# Altium footprint library Encoders.PcbLib: 2 footprints
Each footprint in its own frame and in the unit in brackets; x right, y up, seen from the top. Pads: shape width x height; smd on the part's side, far side on the other; paste and mask are expansions set on the pad; w line width, h text height; cw(c..) or ccw(c..) is an arc to the next point about the centre after c.
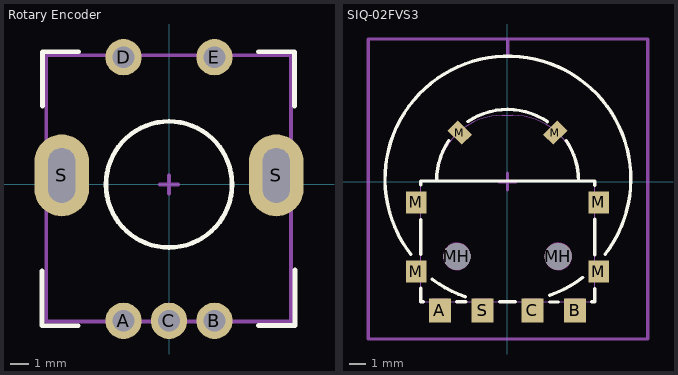
[diagram p0: the footprints below, top view; thin cyan lines are the x and y axes]

## Rotary Encoder [mm] "Rotary Encoder - SW"
height 0.889
pads (7):
  round 2 hole 1.2: A(-2.5,-7.5) B(2.5,-7.5) C(0,-7.5) D(-2.5,7) E(2.5,7)
  oval 3x4.5 hole 1.5 slot 3 at 90 deg: S(-5.9,0.5) S(5.9,0.5)
Top Overlay:
  circle w0.254: c0,0 r3.467
  lines w0.254: -6.984,-4.761 -6.984,-7.761 -4.984,-7.761 ; -6.958,4.3 -6.958,7.3 -4.958,7.3 ; 4.9,7.3 6.9,7.3 6.9,4.3 ; 4.904,-7.759 6.929,-7.759 6.929,-4.7
Mechanical 13:
  lines w0.2: -6.742,-7.539 6.709,-7.539 6.709,7.11 -6.742,7.11 -6.742,-7.539
Mechanical 15:
  lines w0.2: -0.5,0 0.5,0 ; 0,-0.5 0,0.5
3D body "Encoder Alpha RE111F-41B3N-15F-20P.step": height 22, standoff -2.48, extent -6.847,-7.63 6.808,7.2

## SIQ-02FVS3 [mm] "Wheel encoder with slide rotary encoder switch"
height 4
pads (12):
  rect 1.3x1.4 smd paste+0 mask+0.05: A(-3.996,-7.629) B(4.004,-7.629) C(1.479,-7.629) S(-1.471,-7.629)
  rect 1.2x1.3 smd paste+0 mask+0.05: M(-5.396,-5.329) M(-5.396,-1.229) M(5.404,-5.329) M(5.404,-1.229)
  rect 0.85x1.2 smd rot 45 paste+0 mask+0.05: M(-2.825,2.899)
  rect 0.85x1.2 smd rot 135 paste+0 mask+0.05: M(2.832,2.899)
  round 1.6 hole 1.6 unplated: MH(-2.996,-4.429) MH(3.004,-4.429)
Top Overlay:
  lines w0.2: -5.717,-4.316 cw(c0.026,0.151) 5.784,-4.297 ; -5.14,-4.31 -5.14,-2.25 ; -5.137,0.034 5.173,0.016 5.173,-0.221 ; -5.136,-6.325 -5.136,-7.125 -5.036,-7.125 -4.985,-7.125 ; -5.136,-0.2 -5.136,0.028 ; -4.446,-5.794 ccw(c-0.212,-0.099) -2.493,-6.819 ; -4.196,0.071 cw(c0.004,0.071) -3.477,2.421 ; -3,-7.12 -2.48,-7.12 ; -2.345,3.553 cw(c0.004,0.071) 2.364,3.545 ; -0.47,-7.12 0.47,-7.12 ; 2.492,-6.728 ccw(c0.154,-0.029) 4.448,-5.678 ; 2.5,-7.13 3,-7.13 ; 3.477,2.426 cw(c0.004,0.065) 4.204,0.065 ; 4.996,-7.125 5.174,-7.125 5.174,-6.35 ; 5.17,-4.33 5.17,-2.23
Keep-Out Layer:
  board cut-out: 3.804,-4.429 3.804,-4.534 3.749,-4.738 3.644,-4.92 3.495,-5.069 3.312,-5.175 3.109,-5.229 2.898,-5.229 2.695,-5.175 2.512,-5.069 2.363,-4.92 2.258,-4.738 2.204,-4.534 2.204,-4.429 2.204,-4.324 2.258,-4.12 2.363,-3.938 2.512,-3.789 2.695,-3.684 2.898,-3.629 3.109,-3.629 3.312,-3.684 3.495,-3.789 3.644,-3.938 3.749,-4.12 3.804,-4.324
  board cut-out: -2.196,-4.429 -2.196,-4.534 -2.251,-4.738 -2.356,-4.92 -2.505,-5.069 -2.688,-5.175 -2.891,-5.229 -3.102,-5.229 -3.305,-5.175 -3.488,-5.069 -3.637,-4.92 -3.742,-4.738 -3.796,-4.534 -3.796,-4.429 -3.796,-4.324 -3.742,-4.12 -3.637,-3.938 -3.488,-3.789 -3.305,-3.684 -3.102,-3.629 -2.891,-3.629 -2.688,-3.684 -2.505,-3.789 -2.356,-3.938 -2.251,-4.12 -2.196,-4.324
Keep-Out Layer:
  circle w0.025: c3.004,-4.429 r0.8
  circle w0.025: c-2.996,-4.429 r0.8
  region: 3.804,-4.429 3.804,-4.534 3.749,-4.738 3.644,-4.92 3.495,-5.069 3.312,-5.175 3.109,-5.229 2.898,-5.229 2.695,-5.175 2.512,-5.069 2.363,-4.92 2.258,-4.738 2.204,-4.534 2.204,-4.429 2.204,-4.324 2.258,-4.12 2.363,-3.938 2.512,-3.789 2.695,-3.684 2.898,-3.629 3.109,-3.629 3.312,-3.684 3.495,-3.789 3.644,-3.938 3.749,-4.12 3.804,-4.324
  region: -2.196,-4.429 -2.196,-4.534 -2.251,-4.738 -2.356,-4.92 -2.505,-5.069 -2.688,-5.175 -2.891,-5.229 -3.102,-5.229 -3.305,-5.175 -3.488,-5.069 -3.637,-4.92 -3.742,-4.738 -3.796,-4.534 -3.796,-4.429 -3.796,-4.324 -3.742,-4.12 -3.637,-3.938 -3.488,-3.789 -3.305,-3.684 -3.102,-3.629 -2.891,-3.629 -2.688,-3.684 -2.505,-3.789 -2.356,-3.938 -2.251,-4.12 -2.196,-4.324
Mechanical 15:
  region: -5.106,-7.125 -5.106,-7.15 -5.141,-7.185 -5.191,-7.185 -5.226,-7.15 -5.226,-7.125 -5.226,-7.1 -5.191,-7.065 -5.141,-7.065 -5.106,-7.1
  region: 3.504,-7.125 3.504,-6.925 4.504,-6.925 4.504,-7.125
  region: 0.979,-7.125 0.979,-6.925 1.979,-6.925 1.979,-7.125
  region: -1.971,-7.125 -1.971,-6.925 -0.971,-6.925 -0.971,-7.125
  region: -4.496,-7.125 -4.496,-6.925 -3.496,-6.925 -3.496,-7.125
  region: -5.136,-0.729 -4.936,-0.729 -4.936,-1.729 -5.136,-1.729
  region: -5.136,-4.829 -4.936,-4.829 -4.936,-5.829 -5.136,-5.829
  region: 4.974,-4.829 5.174,-4.829 5.174,-5.829 4.974,-5.829
  region: 4.974,-0.729 5.174,-0.729 5.174,-1.729 4.974,-1.729
  region: -2.683,3.182 -2.542,3.041 -2.966,2.616 -3.108,2.758
  region: 3.115,2.758 2.973,2.616 2.549,3.041 2.69,3.182
  lines w0.051: -5.136,-7.125 -5.136,0.028 cw(c-5.132,0.028) -5.132,0.033 -4.186,0.033 cw(c-0.298,0.033) -0.298,3.921 0.014,3.921 0.311,3.921 cw(c0.311,0.018) 4.214,0.018 ccw(c4.215,0.018) 4.215,0.016 5.173,0.016 cw(c5.173,0.016) 5.174,0.016 5.174,-7.125 -5.136,-7.125 ; -5.136,-7.125 -5.136,-7.125
  lines w0.2: -0.5,0 0.5,0 ; 0,-0.5 0,0.5 ; 0.02,7.44 0.02,8.44 ; -8.24,-9.32 8.3,-9.32 8.3,8.44 -8.24,8.44 -8.24,-9.32
3D body "SIQ-02FVS3-1.step": height 4, standoff -0.5, extent -7.25,-7.19 7.25,7.28